# Altium schematic symbol library АСК_2.SCHLIB: 28 symbols
Pins are listed as number, name and electrical type; pins without a type are passive.

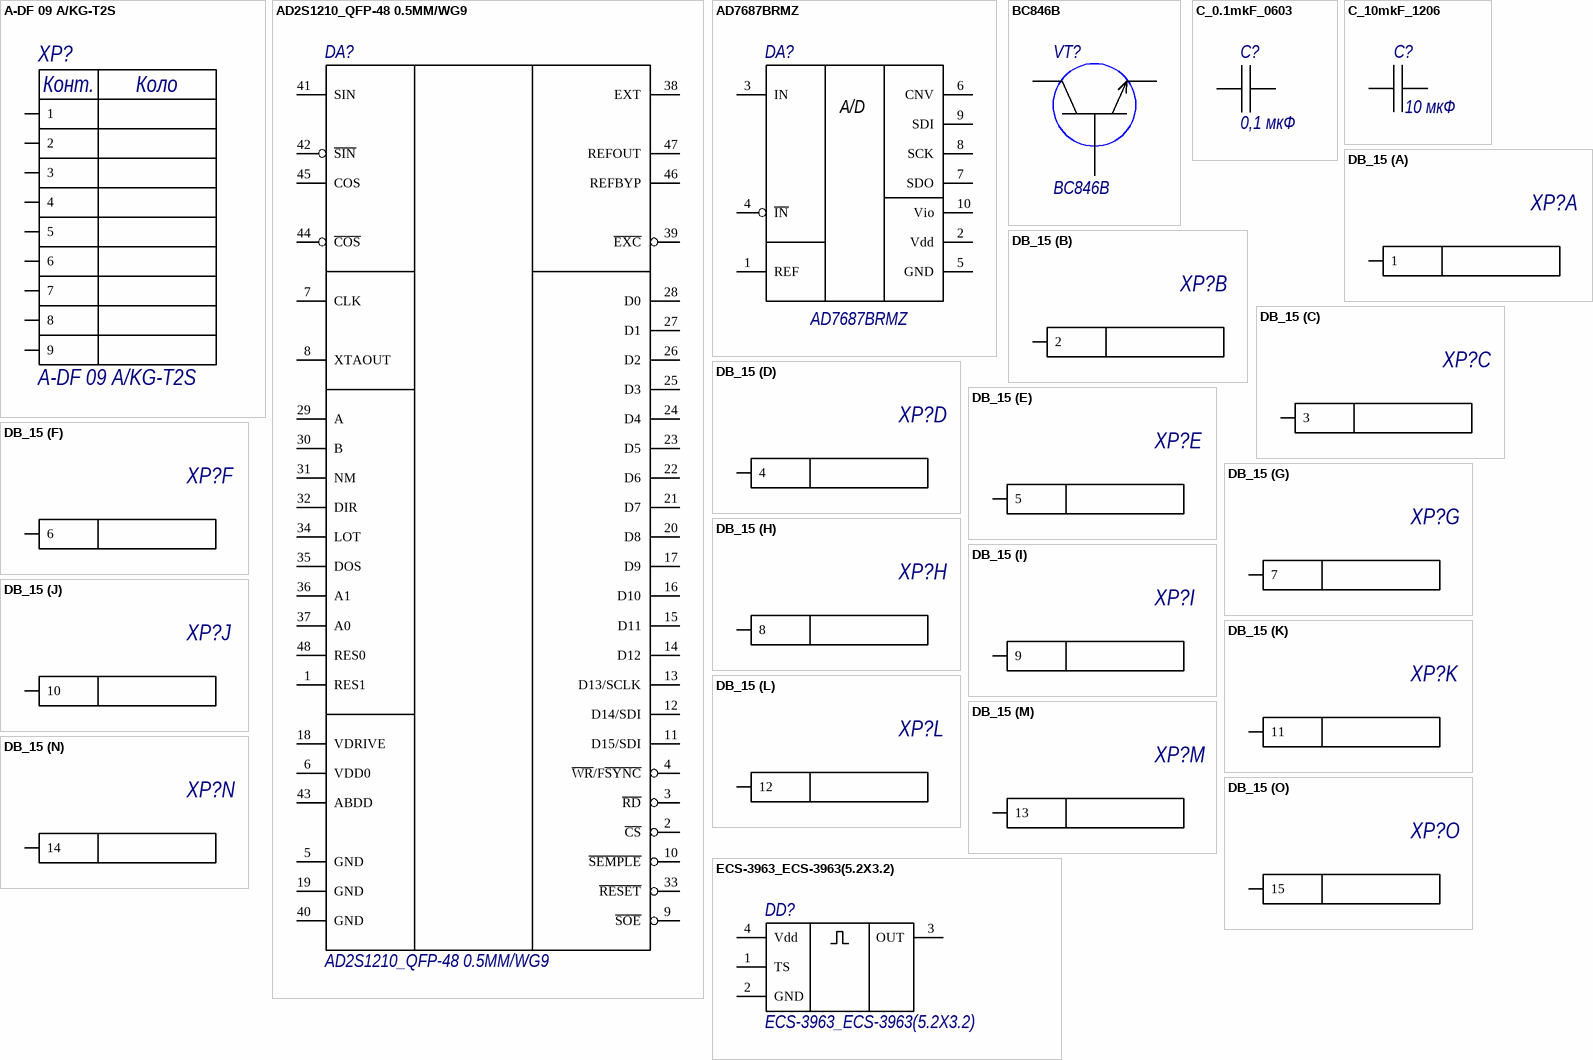
[diagram p0: symbols A-DF 09 A/KG-T2S to ECS-3963_ECS-3963(5.2X3.2)]

## A-DF 09 A/KG-T2S
designator XP?
Manufacturer: Assmann WSW Components; Name: A-DF 09 A/KG-T2S
footprint A-DF 09 A/KG-T2S
pins: 1, 2, 3, 4, 5, 6, 7, 8, 9
text: Конт.; Коло

## AD2S1210_QFP-48 0.5MM/WG9
designator DA?
Manufacturer: Analog Devices; Case: QFP-48 0.5MM/WG9; Name: AD2S1210
footprint QFP-48 0.5MM/WG9
pins: 1 RES1, 2 ~{CS}, 3 ~{RD}, 4 ~{WR}/F~{SYNC}, 5 GND, 6 VDD0, 7 CLK, 8 XTAOUT, 9 ~{SOE}, 10 ~{SEMPLE}, 11 D15/SDI, 12 D14/SDI, 13 D13/SCLK, 14 D12, 15 D11, 16 D10, 17 D9, 18 VDRIVE, 19 GND, 20 D8, 21 D7, 22 D6, 23 D5, 24 D4, 25 D3, 26 D2, 27 D1, 28 D0, 29 A, 30 B, 31 NM, 32 DIR, 33 ~{RESET}, 34 LOT, 35 DOS, 36 A1, 37 A0, 38 EXT, 39 ~{EXC}, 40 GND, 41 SIN, 42 ~{SIN}, 43 ABDD, 44 ~{COS}, 45 COS, 46 REFBYP, 47 REFOUT, 48 RES0

## AD7687BRMZ
designator DA?
Manufacturer: Analog Devices; Name: AD7687BRMZ
footprint AD7687BRMZ (TSSOP, 10-Leads, Body 3,00x3,00mm, Pitch 0,50mm, IPC Medium Density)
pins: 1 REF, 2 Vdd, 3 IN, 4 ~{IN}, 5 GND, 6 CNV, 7 SDO, 8 SCK, 9 SDI, 10 Vio
text: A/D

## BC846B
designator VT?
Manufacturer: ON Semiconductor; Name: BC846B
footprint SOT95P245X110 3N (SOT23, 3-Leads, Body 2,90x2,45mm, Pitch 0,95mm, IPC Medium Density)
pins: 1, 2, 3

## C_0.1mkF_0603
designator C?, comment 0,1 мкФ
C_0.1mkF_0603; Manufacturer: Yageo; Tolerance: 5%; Temp_Coef: X7R; Voltage: 50 В; Value: 0,1 мкФ; Package: C-0603
footprint C_0603
pins: 1, 2

## C_10mkF_1206
designator C?, comment 10 мкФ
C_10mkF_1206; Manufacturer: Yageo; Temp_Coef: X7R; Voltage: 50 В; Tolerance: 5%; Value: 10 мкФ; Package: C-1206
footprint C_1206
pins: 1, 2

## DB_15
designator XP?  (value not drawn)
Manufacturer: AMP Connectors; Name: 5747841-2
footprint DSUB-15
part A pins: 1
part B pins: 1 2
part C pins: 3
part D pins: 4
part E pins: 5
part F pins: 6
part G pins: 7
part H pins: 8
part I pins: 9
part J pins: 10
part K pins: 11
part L pins: 12
part M pins: 13
part N pins: 14
part O pins: 15

## ECS-3963_ECS-3963(5.2X3.2)
designator DD?
Manufacturer: ECS Inc.; Name: ECS-3963
footprint ECS-3961
pins: 1 TS, 2 GND, 3 OUT, 4 Vdd

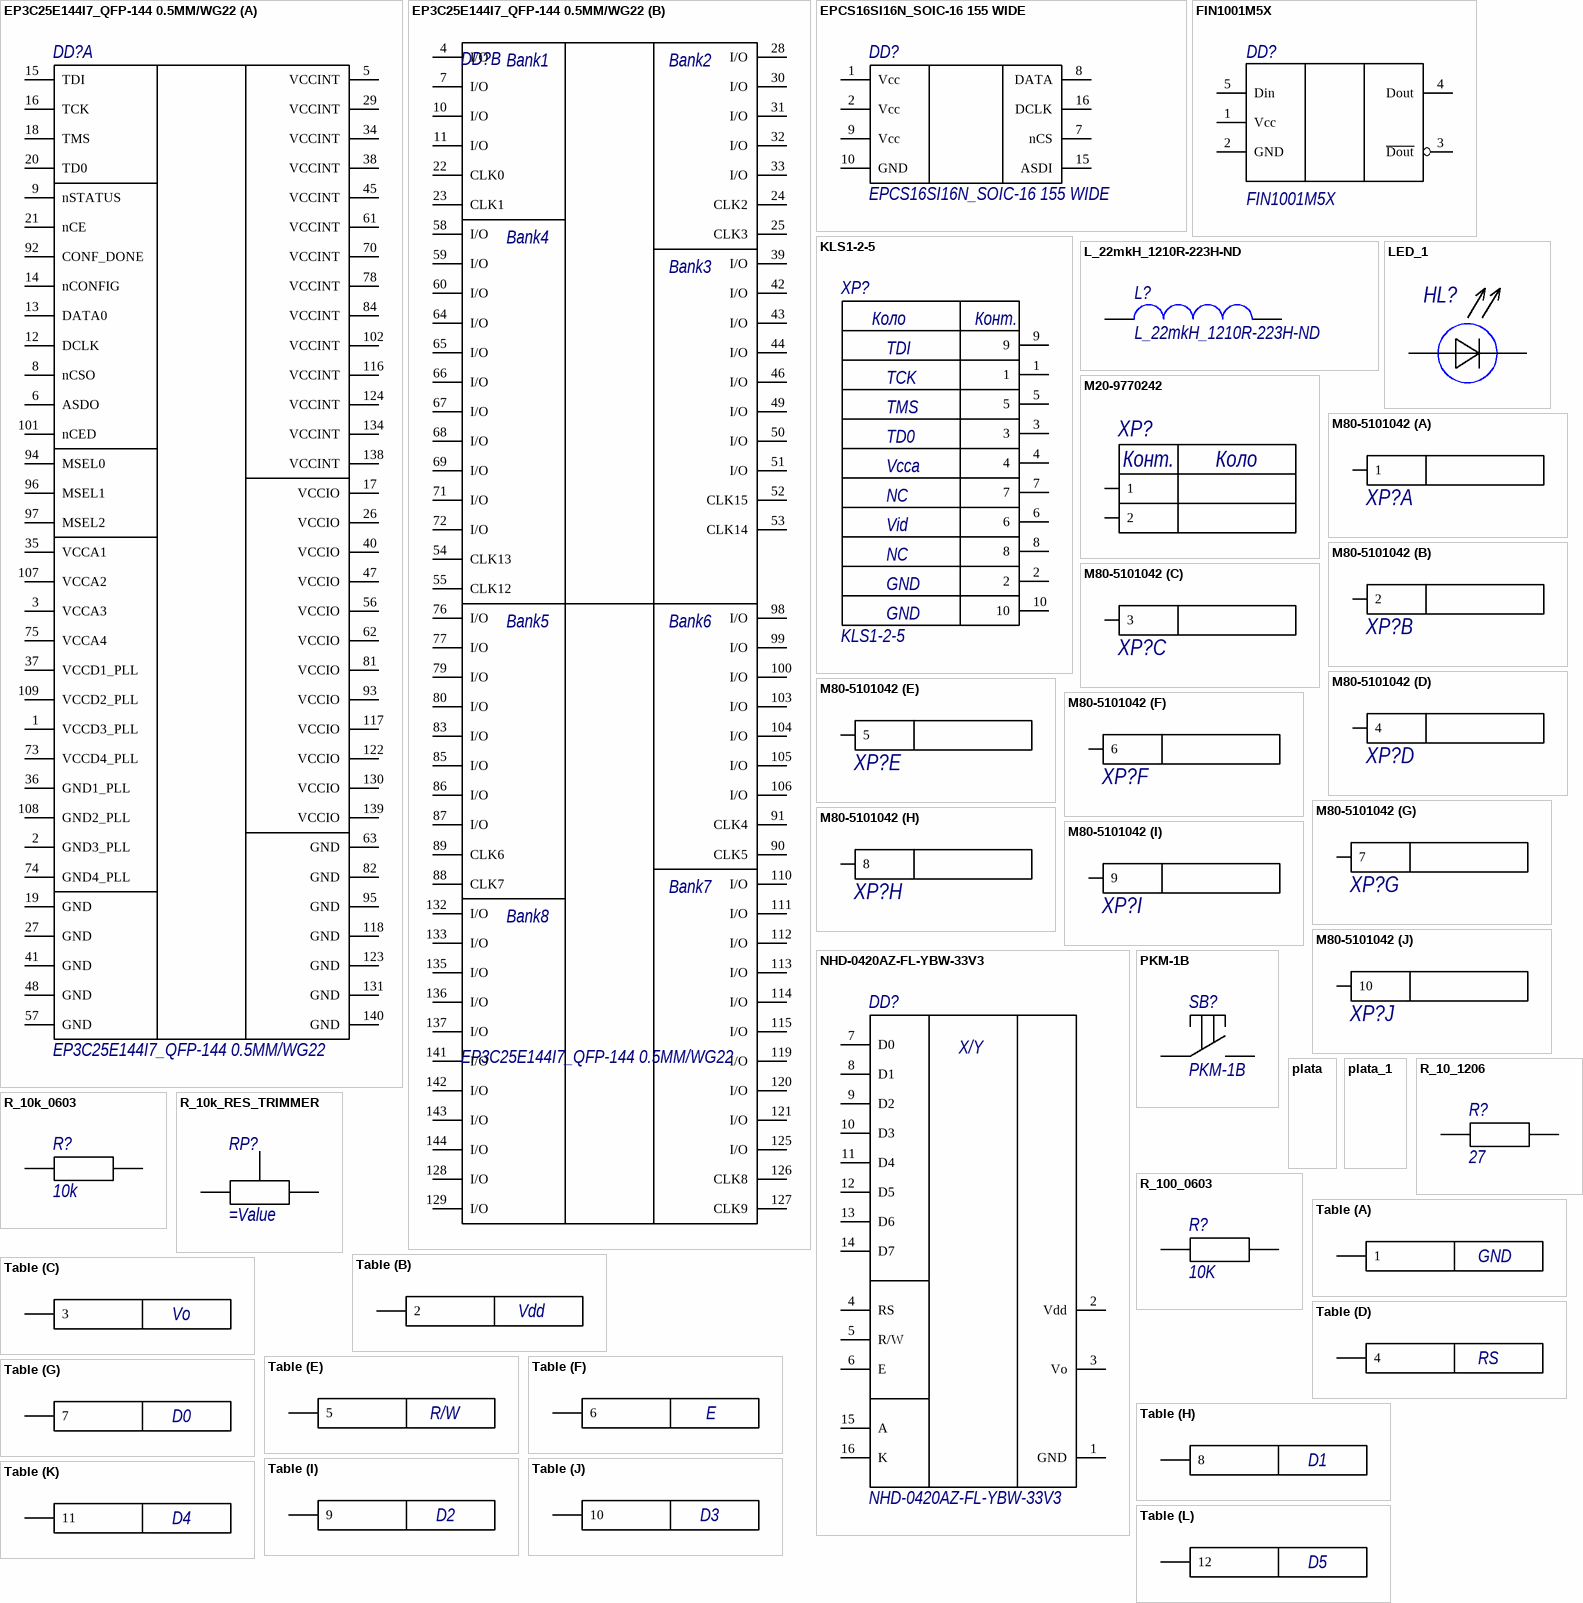
[diagram p1: symbols EP3C25E144I7_QFP-144 0.5MM/WG22 to Table]

## EP3C25E144I7_QFP-144 0.5MM/WG22
designator DD?
Manufacturer: Altera; Name: EP3C25E144I7
footprint QFP127P600-8N
part A pins: 1 VCCD3_PLL, 2 GND3_PLL, 3 VCCA3, 5 VCCINT, 6 ASDO, 8 nCSO, 9 nSTATUS, 12 DCLK, 13 DATA0, 14 nCONFIG, 15 TDI, 16 TCK, 17 VCCIO, 18 TMS, 19 GND, 20 TD0, 21 nCE, 26 VCCIO, 27 GND, 29 VCCINT, 34 VCCINT, 35 VCCA1, 36 GND1_PLL, 37 VCCD1_PLL, 38 VCCINT, 40 VCCIO, 41 GND, 45 VCCINT, 47 VCCIO, 48 GND, 56 VCCIO, 57 GND, 61 VCCINT, 62 VCCIO, 63 GND, 70 VCCINT, 73 VCCD4_PLL, 74 GND4_PLL, 75 VCCA4, 78 VCCINT, 81 VCCIO, 82 GND, 84 VCCINT, 92 CONF_DONE, 93 VCCIO, 94 MSEL0, 95 GND, 96 MSEL1, 97 MSEL2, 101 nCED, 102 VCCINT, 107 VCCA2, 108 GND2_PLL, 109 VCCD2_PLL, 116 VCCINT, 117 VCCIO, 118 GND, 122 VCCIO, 123 GND, 124 VCCINT, 130 VCCIO, 131 GND, 134 VCCINT, 138 VCCINT, 139 VCCIO, 140 GND
part B pins: 4 I/O, 7 I/O, 10 I/O, 11 I/O, 22 CLK0, 23 CLK1, 24 CLK2, 25 CLK3, 28 I/O, 30 I/O, 31 I/O, 32 I/O, 33 I/O, 39 I/O, 42 I/O, 43 I/O, 44 I/O, 46 I/O, 49 I/O, 50 I/O, 51 I/O, 52 CLK15, 53 CLK14, 54 CLK13, 55 CLK12, 58 I/O, 59 I/O, 60 I/O, 64 I/O, 65 I/O, 66 I/O, 67 I/O, 68 I/O, 69 I/O, 71 I/O, 72 I/O, 76 I/O, 77 I/O, 79 I/O, 80 I/O, 83 I/O, 85 I/O, 86 I/O, 87 I/O, 88 CLK7, 89 CLK6, 90 CLK5, 91 CLK4, 98 I/O, 99 I/O, 100 I/O, 103 I/O, 104 I/O, 105 I/O, 106 I/O, 110 I/O, 111 I/O, 112 I/O, 113 I/O, 114 I/O, 115 I/O, 119 I/O, 120 I/O, 121 I/O, 125 I/O, 126 CLK8, 127 CLK9, 128 I/O, 129 I/O, 132 I/O, 133 I/O, 135 I/O, 136 I/O, 137 I/O, 141 I/O, 142 I/O, 143 I/O, 144 I/O
part B text: Bank1; Bank2; Bank4; Bank3; Bank5; Bank6; Bank7; Bank8

## EPCS16SI16N_SOIC-16 155 WIDE
designator DD?
Manufacturer: Altera; Name: EPCS16SI16N
footprint SOIC127P600X175-16N (SOIC, 16-Leads, Body 9,90x3,90mm, Pitch 1,27mm, IPC Medium Density)
pins: 1 Vcc, 2 Vcc, 7 nCS, 8 DATA, 9 Vcc, 10 GND, 15 ASDI, 16 DCLK

## FIN1001M5X
designator DD?
Manufacturer: ON Semiconductor; Name: FIN1001M5X
footprint SOT95P280X110-5N (SOT23, 5-Leads, Body 2,90x2,80mm, Pitch 0,95mm, IPC Medium Density)
pins: 1 Vcc, 2 GND, 3 ~{Dout}, 4 Dout, 5 Din

## KLS1-2-5
designator XP?
Manufacturer: KLS; Name: KLS1-207C-2-80-S1
footprint KLS1-2-5
pins: 1, 2, 3, 4, 5, 6, 7, 8, 9, 10
text: Коло; Конт.; TDI; TCK; TMS; TD0; Vcca; NC; Vid; GND

## L_22mkH_1210R-223H-ND
designator L?
Manufacturer: Murata Manufacturing; Name: L-1210 22 мкГн 223H-ND
footprint 1210R_IND
pins: 1, 2

## LED_1
designator HL?  (value not drawn)
Name: L-934ID; Manufacturer: *
footprint LED_VISHAY_VLMX1
pins: 1, 2

## M20-9770242
designator XP?  (value not drawn)
Manufacturer: Harwin Inc.; Name: M20-9770242
footprint B2B-XH-A
pins: 1, 2
text: Конт.; Коло

## M80-5101042
designator XP?  (value not drawn)
Manufacturer: Harwin Inc.; Name: M80-5101042
footprint M80-5100842
part A pins: 1
part B pins: 2
part C pins: 3
part D pins: 4
part E pins: 5
part F pins: 6
part G pins: 7
part H pins: 8
part I pins: 9
part J pins: 10

## NHD-0420AZ-FL-YBW-33V3
designator DD?
Manufacturer: Newhaven Display Intl; Name: NHD-0420AZ-FL-YBW-33V3
footprint NHD-0420AZ-FL-YBW-33V3-ND
pins: 1 GND, 2 Vdd, 3 Vo, 4 RS, 5 R/W, 6 E, 7 D0, 8 D1, 9 D2, 10 D3, 11 D4, 12 D5, 13 D6, 14 D7, 15 A, 16 K
text: X/Y

## PKM-1B
designator SB?
pins: 1, 2

## plata
designator ?
Group_Specification: 4; Name: Плата друкована

## plata_1
designator ?
Group_Specification: 7; Name: Лак

## R_10_1206
designator R?, comment 27
R_10_1206; Manufacturer: Yageo; Tolerance: 1%; Power: 0,125 Вт; Value: 27; Package: R-1206
footprint R_1206
pins: 1, 2

## R_10k_0603
designator R?, comment 10k
R_10k_0603; Manufacturer: Yageo; Tolerance: 1%; Power: 0,125 Вт; Value: 10k; Package: R-0603
footprint R_0603
pins: 1, 2

## R_10k_RES_TRIMMER
designator RP?
R_10k_RES_TRIMMER_3361P-1-103GLF; Manufacturer: BOURNS; Name: 3361P-1-103GLF
footprint RES_TRIMMER_3361P-1-103GLF
pins: 1, 2, 3

## R_100_0603
designator R?, comment 10K
R_100_0603; Manufacturer: Yageo; Tolerance: 1%; Power: 0,125 Вт; Value: 10K; Package: R-0603
footprint R_0603
pins: 1, 2

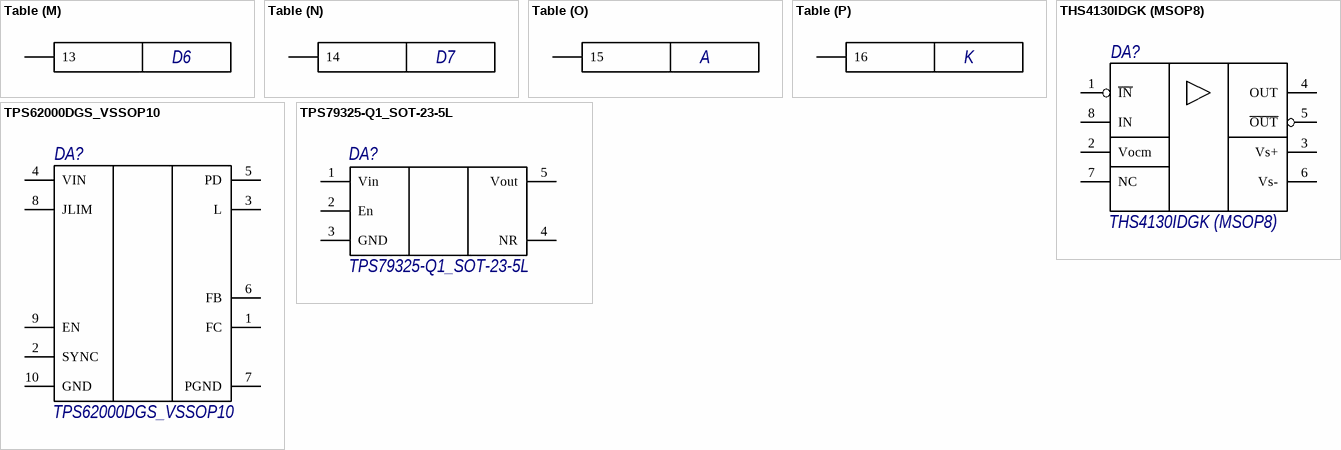
[diagram p2: symbols Table to TPS79325-Q1_SOT-23-5L]

## Table
designator ?
part A pins: 1
part B pins: 2
part C pins: 3
part D pins: 4
part E pins: 5
part F pins: 6
part G pins: 7
part H pins: 8
part I pins: 9
part J pins: 10
part K pins: 11
part L pins: 12
part M pins: 13
part N pins: 14
part O pins: 15
part P pins: 16
part A text: GND
part B text: Vdd
part C text: Vo
part D text: RS
part E text: R/W
part F text: E
part G text: D0
part H text: D1
part I text: D2
part J text: D3
part K text: D4
part L text: D5
part M text: D6
part N text: D7
part O text: A
part P text: K

## THS4130IDGK (MSOP8)
designator DA?
Manufacturer: Texas Instruments; Name: THS4130IDGK
footprint THS4130IDGK(MSOP8)
pins: 1 ~{IN}, 2 Vocm, 3 Vs+, 4 OUT, 5 ~{OUT}, 6 Vs-, 7 NC, 8 IN

## TPS62000DGS_VSSOP10
designator DA?
Manufacturer: Texas Instruments; Name: TPS62000DGS
footprint AD7687BRMZ (TSSOP, 10-Leads, Body 3,00x3,00mm, Pitch 0,50mm, IPC Medium Density)
pins: 1 FC, 2 SYNC, 3 L, 4 VIN, 5 PD, 6 FB, 7 PGND, 8 JLIM, 9 EN, 10 GND

## TPS79325-Q1_SOT-23-5L
designator DA?
Manufacturer: Texas Instruments; Name: TPS79325
footprint SOT95P280X110-5N (SOT23, 5-Leads, Body 2,90x2,80mm, Pitch 0,95mm, IPC Medium Density)
pins: 1 Vin, 2 En, 3 GND, 4 NR, 5 Vout